# Altium schematic symbol library pedals-switches.SCHLIB: 28 symbols
Pins are listed as number, name and electrical type; pins without a type are passive.

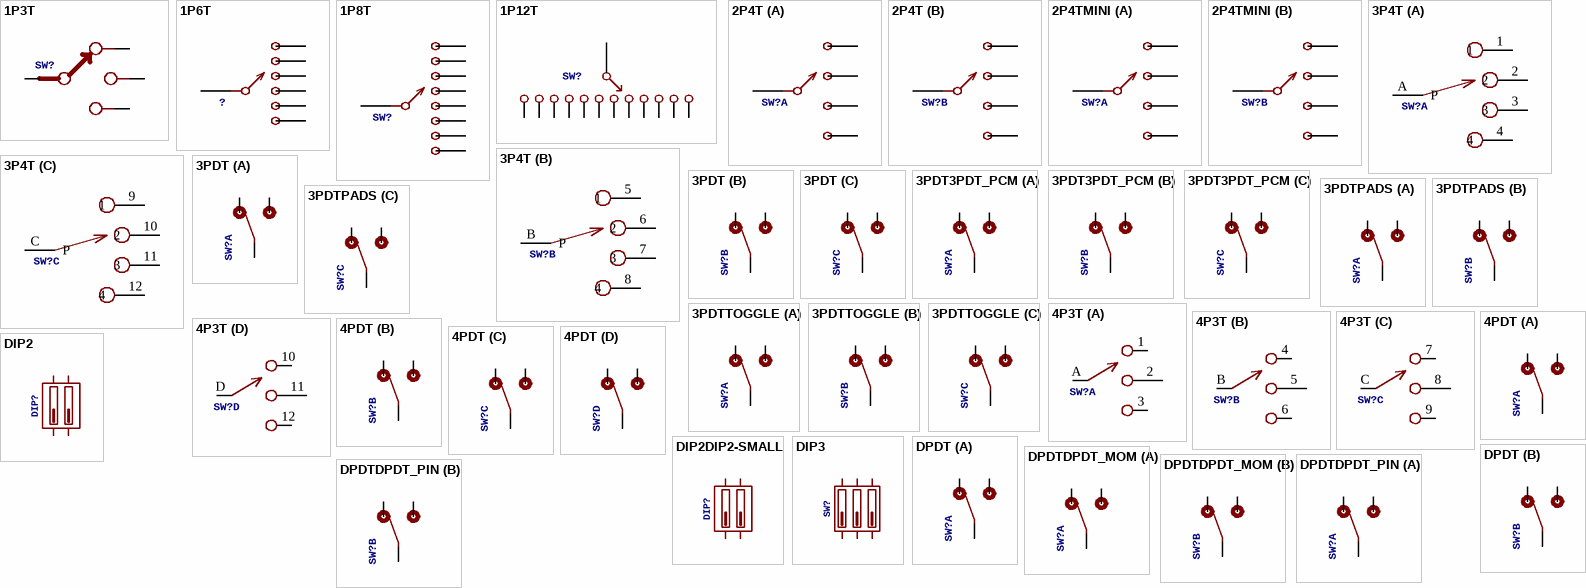
[diagram p0: symbols 1P3T to DPDTDPDT_PIN]

## 1P3T
designator SW?
footprint 1P3T
pins: P$1 A, P$2 1, P$3 2, P$4 3

## 1P6T
designator ?
footprint 1P6T
pins: 1 2, 2 3, 3 4, 4 5, 5 6, 6 7, 7 A

## 1P8T
designator SW?
footprint SMALLROTARY
pins: 1, 2, 3, 4, 5, 6, 7, 8, C A

## 1P12T
designator SW?
footprint 12T
pins: 1 P$1, 2 P$2, 3 P$3, 4 P$4, 5 P$5, 6 P$6, 7 P$7, 8 P$8, 9 P$9, 10 P$10, 11 P$11, 12 P$12, A

## 2P4T
designator SW?
footprint SMALLROTARY
part A pins: 1, 2, 3, 4, C A
part B pins: 5 1, 6 2, 7 3, 8 4, 9 A

## 2P4TMINI
designator SW?
footprint 2P4T_MINI
part A pins: 1 A, A1 1, A2 2, A3 3, A4 4
part B pins: 2 A, B1 1, B2 2, B3 3, B4 4

## 3P4T
designator SW?
footprint 3D4P
part A pins: 1, 2, 3, 4, A P
part B pins: 5 1, 6 2, 7 3, 8 4, B P
part C pins: 9 1, 10 2, 11 3, 12 4, C P

## 3PDT
designator SW?
footprint 3PDT
part A pins: A1 1, A2 2, A3 3
part B pins: B1 1, B2 2, B3 3
part C pins: C1 1, C2 2, C3 3

## 3PDT3PDT_PCM
designator SW?
footprint 3PDT_PCM
part A pins: A1 1, A2 2, A3 3
part B pins: B1 1, B2 2, B3 3
part C pins: C1 1, C2 2, C3 3

## 3PDTPADS
designator SW?
footprint 3PDTPADS
part A pins: A1 1, A2 2, A3 3
part B pins: B1 1, B2 2, B3 3
part C pins: C1 1, C2 2, C3 3

## 3PDTTOGGLE
designator SW?
footprint 3PDT2
part A pins: A1 1, A2 2, A3 3
part B pins: B1 1, B2 2, B3 3
part C pins: C1 1, C2 2, C3 3

## 4P3T
designator SW?
footprint 4P3T
part A pins: 1 T1, 2 T2, 3 T3, A P
part B pins: 4 T1, 5 T2, 6 T3, B P
part C pins: 7 T1, 8 T2, 9 T3, C P
part D pins: 10 T1, 11 T2, 12 T3, D P

## 4PDT
designator SW?
footprint 4PDT
part A pins: P$1 1, P$2 2, P$3 3
part B pins: P$4 1, P$5 2, P$6 3
part C pins: P$7 1, P$8 2, P$9 3
part D pins: P$10 1, P$11 2, P$12 3

## DIP2
designator DIP?, comment 2 pos dip  (value not drawn)
footprint DIP2
pins: P$1 1, P$2 2, P$3 3, P$4 4

## DIP2DIP2-SMALL
designator DIP?, comment 2 pos dip  (value not drawn)
footprint DIP2-SMALL
pins: P$1 1, P$2 2, P$3 3, P$4 4

## DIP3
designator SW?
footprint DIP3
pins: P$1 1, P$2 2, P$3 3, P$4 4, P$5 5, P$6 6

## DPDT
designator SW?
footprint DPDT
part A pins: A1 1, A2 2, A3 3
part B pins: B1 1, B2 2, B3 3

## DPDTDPDT_MOM
designator SW?
footprint SF12011F-0202-20R-M-011
part A pins: P$1 1, P$2 2, P$3 3
part B pins: P$4 1, P$5 2, P$6 3

## DPDTDPDT_PIN
designator SW?
footprint 10TC415
part A pins: 1, 2, 3
part B pins: 4 1, 5 2, 6 3

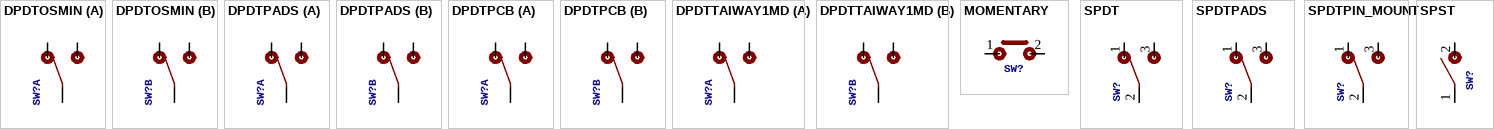
[diagram p1: symbols DPDTOSMIN to SPST]

## DPDTOSMIN
designator SW?
footprint DPDT_OSMINI
part A pins: 1, 2, 3
part B pins: 4 1, 5 2, 6 3

## DPDTPADS
designator SW?
footprint DPDT_PADS
part A pins: P$1 1, P$2 2, P$3 3
part B pins: P$4 1, P$5 2, P$6 3

## DPDTPCB
designator SW?
footprint DPDT2_PCB
part A pins: A1 1, A2 2, A3 3
part B pins: B1 1, B2 2, B3 3

## DPDTTAIWAY1MD
designator SW?
footprint TAIWAY1MD
part A pins: A1 1, A2 2, A3 3
part B pins: B1 1, B2 2, B3 3

## MOMENTARY
designator SW?
footprint SPST
pins: 1 P, 2 S

## SPDT
designator SW?, comment TOGGLE SWITCH   Marquardt  (value not drawn)
footprint M9040P
pins: 1 O, 2 P, 3 S

## SPDTPADS
designator SW?, comment TOGGLE SWITCH   Marquardt  (value not drawn)
footprint SPDT
pins: 1 O, 2 P, 3 S

## SPDTPIN_MOUNT
designator SW?, comment TOGGLE SWITCH   Marquardt  (value not drawn)
footprint 1MS1T1B1C0M2QE
pins: 1 O, 2 P, 3 S

## SPST
designator SW?
footprint SPST
pins: 1 P, 2 S